# EAGLE library part FT231X (library SchmalzHausPublic)
Source: http://www.ftdichip.com/Documents/DataSheets/DS_FT232R_v104.pdf
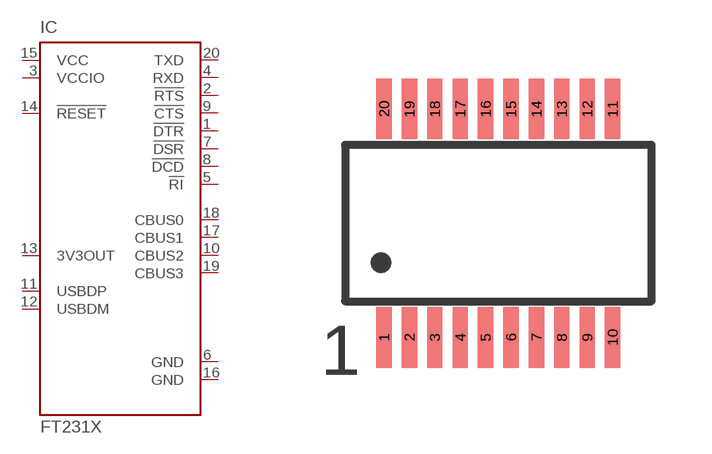
[diagram p3: symbol with the pads of SSOP20; footprint SSOP20]

Designator prefix IC

## FT231XLD  [SSOP20]
1  !DTR  out
2  !RTS  out
3  VCCIO  pwr
4  RXD  in
5  !RI  in
6  GND  pwr
7  !DSR  in
8  !DCD  in
9  !CTS  in
10  CBUS2
11  USBDP
12  USBDM
13  3V3OUT  out
14  !RESET  in
15  VCC  pwr
16  GND  pwr
17  CBUS1
18  CBUS0
19  CBUS3
20  TXD  out

## Footprint SSOP20 (pad centres in mm)
Shrink Small Outline Package SSOP-28 http://www.ftdichip.com/Documents/DataSheets/DS_FT232R_v104.pdf
smd 0.381 x 1.524: 1 -2.857,-2.857; 2 -2.223,-2.857; 3 -1.587,-2.857; 4 -0.953,-2.857; 5 -0.318,-2.857; 6 0.318,-2.857; 7 0.953,-2.857; 8 1.587,-2.857; 9 2.223,-2.857; 10 2.857,-2.857; 11 2.857,2.857; 12 2.223,2.857; 13 1.587,2.857; 14 0.953,2.857; 15 0.318,2.857; 16 -0.318,2.857; 17 -0.953,2.857; 18 -1.587,2.857; 19 -2.223,2.857; 20 -2.857,2.857